# Altium integrated library ADC.IntLib: 7 symbols
Pins are listed as number, name and electrical type; pins without a type are passive.

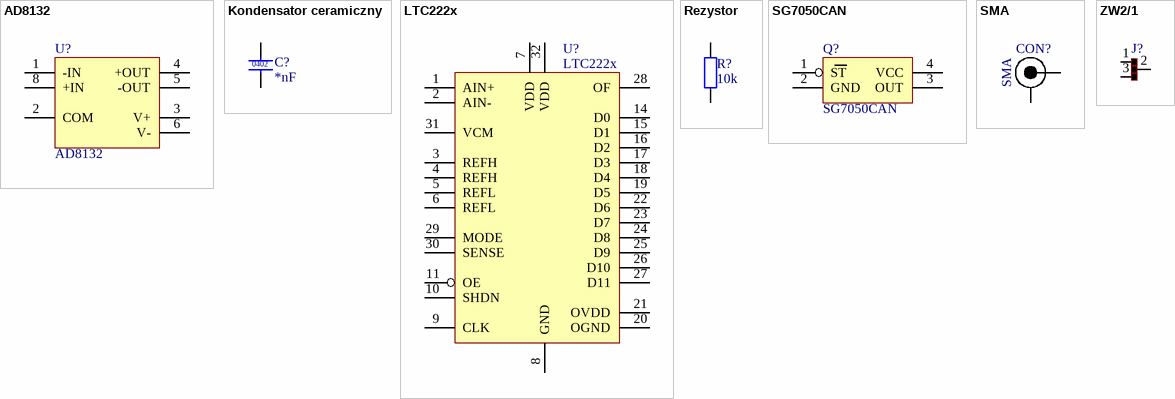
[diagram p0: symbols AD8132 to ZW2/1]

## AD8132
designator U?
footprint SOIC8
pins: 1 -IN, 2 COM, 3 V+, 4 +OUT, 5 -OUT, 6 V-, 8 +IN

## Kondensator ceramiczny
designator C?, comment *nF  Obudowa: 0402
Dostawca: Farnell; Montaż: SMD; Nazwa: Kondensator ceramiczny; Parametr_2: V=50V; Parametr_4: Temp -55..+125; Parametr_5: Tolerancja ± 5%; Nr katalogowy: *; Oznaczenie: *; Parametr_1: *nF; Parametr_3: *; Producent: *
footprint C1206
footprint C0603
footprint C0805
footprint C0402 (Chip Capacitor, 2-Leads, Body 0402)
footprint C1210 (Chip Capacitor, 2-Leads, Body 3.2x2.5mm, IPC Medium Density)
pins: 1, 2

## LTC222x
designator U?
footprint QFN32
pins: 1 AIN+ (power), 2 AIN- (power), 3 REFH (power), 4 REFH (power), 5 REFL (power), 6 REFL (power), 7 VDD (power), 8 GND (power), 9 CLK (power), 10 SHDN (power), 11 OE (power), 14 D0 (power), 15 D1 (power), 16 D2 (power), 17 D3 (power), 18 D4 (power), 19 D5 (power), 20 OGND (power), 21 OVDD (power), 22 D6 (power), 23 D7 (power), 24 D8 (power), 25 D9 (power), 26 D10 (power), 27 D11 (power), 28 OF (power), 29 MODE (power), 30 SENSE (power), 31 VCM (power), 32 VDD (power)

## Rezystor
designator R?, comment 10k
Dostawca: Farnell; Montaż: SMD; Nazwa: Rezystor; Obudowa: 0805; Parametr_2: Moc = 0.125W; Parametr_3: Napięcie max = 150V; Parametr_4: Temp -55..+150; Parametr_5: Tolerancja 1%; Nr katalogowy: *; Oznaczenie: *; Parametr_1: 10k; Producent: *
footprint R0603
footprint R0402 (Chip Resistor, 2-Leads, Body 0402)
footprint R1206 (Chip Resistor, 2-Leads, Body 3.1x1.6mm, IPC Medium Density)
footprint R0805 (Chip Resistor, 2-Leads, Body 2.0x1.3mm, IPC Medium Density)
pins: 1, 2

## SG7050CAN
designator Q?
pins: 1 ST (power), 2 GND (power), 3 OUT (power), 4 VCC (power)

## SMA
designator CON?
footprint SMA-16 (Gniazdo; SMA; żeńskie; z nakrętką montażową, krawędziowe; SMT)
pins: 1, 2

## ZW2/1
designator J?  (value not drawn)
footprint ZW2/1 (Kropla cyny)
pins: 1 SW2, 2 SW3, 3 SW4